# Altium schematic symbol library TXS0104EPW.SchLib: 2 symbols
Pins are listed as number, name and electrical type; pins without a type are passive.

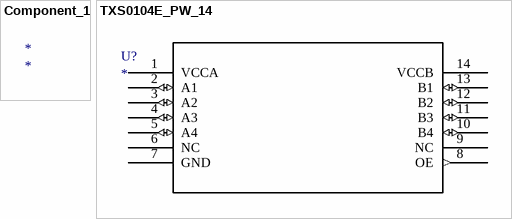
[diagram p0: symbols Component_1 to TXS0104E_PW_14]

## Component_1
designator *

## TXS0104E_PW_14
designator U?
Imported; Manufacturer_Part_Number: txs0104e_pw_14; GENERIC_PART_NUMBER: TXS0104E; Vendor: Texas Instruments; PACKAGE_DESIGNATOR: PW; PIN_COUNT: 14; FAMILY_NAME: AUTO DIRECTION SENSING DUAL SUPPLY TRANSLATOR; INDUSTRY_STD_PKG_TYPE: TSSOP; Datasheet URL: http://www.ti.com/lit/gpn/TXS0104E; Manufacturer: Texas Instruments; RefDes: RefDes; Type: DEV; Value: Value
footprint PW14
pins: 1 VCCA (power), 2 A1 (io), 3 A2 (io), 4 A3 (io), 5 A4 (io), 6 NC, 7 GND (power), 8 OE (out), 9 NC, 10 B4 (io), 11 B3 (io), 12 B2 (io), 13 B1 (io), 14 VCCB (power)